# Altium schematic symbol library Schlib.SchLib: 7 symbols
Pins are listed as number, name and electrical type; pins without a type are passive.

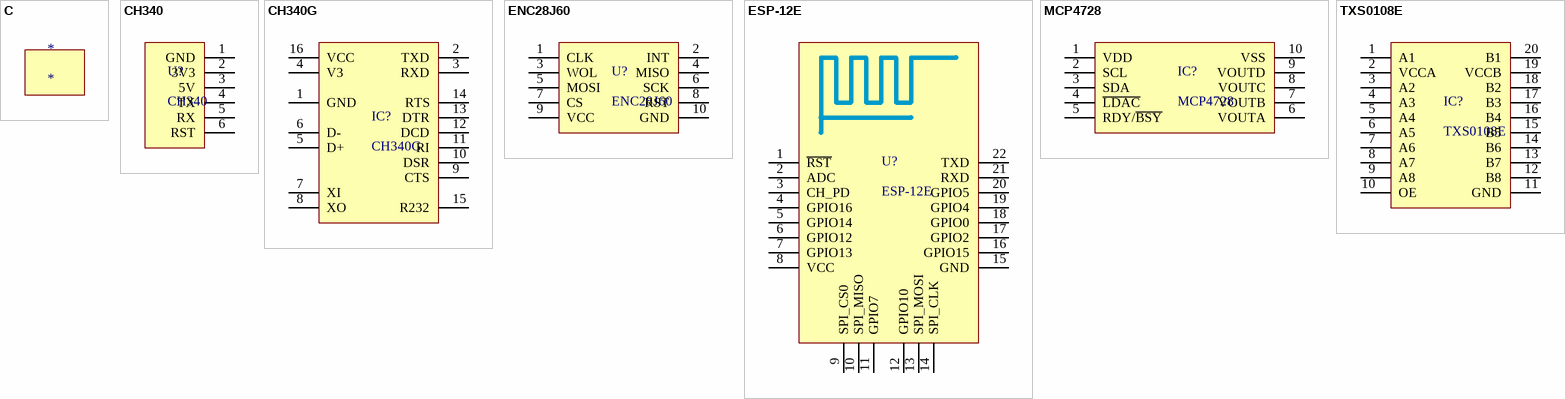
[diagram p0: symbols C to TXS0108E]

## C
designator *
footprint R79

## CH340
designator U?
USB to TTL UART CH340
footprint CH340
pins: 1 GND, 2 3V3, 3 5V, 4 TX, 5 RX, 6 RST

## CH340G
designator IC?
USB to UART Interface
pins: 1 GND, 2 TXD, 3 RXD, 4 V3, 5 D+, 6 D-, 7 XI, 8 XO, 9 CTS, 10 DSR, 11 RI, 12 DCD, 13 DTR, 14 RTS, 15 R232, 16 VCC

## ENC28J60
designator U?
ENC28J60 mini Ethernet module
footprint ENC28J60
pins: 1 CLK, 2 INT, 3 WOL, 4 MISO, 5 MOSI, 6 SCK, 7 CS, 8 RST, 9 VCC, 10 GND

## ESP-12E
designator U?
WiFi Module
footprint ESP-12E
pins: 1 ~{RST}, 2 ADC, 3 CH_PD, 4 GPIO16, 5 GPIO14, 6 GPIO12, 7 GPIO13, 8 VCC, 9 SPI_CS0, 10 SPI_MISO, 11 GPIO7, 12 GPIO10, 13 SPI_MOSI, 14 SPI_CLK, 15 GND, 16 GPIO15, 17 GPIO2, 18 GPIO0, 19 GPIO4, 20 GPIO5, 21 RXD, 22 TXD

## MCP4728
designator IC?
12-Bit, Quad Digital-to-Analog Converter with EEPROM Memory
footprint MSOP-10
pins: 1 VDD, 2 SCL, 3 SDA, 4 ~{LDAC}, 5 RDY/~{BSY}, 6 VOUTA, 7 VOUTB, 8 VOUTC, 9 VOUTD, 10 VSS

## TXS0108E
designator IC?
8-Bit Bi-directional, Level-Shifting, Voltage Translator  for Open-Drain and Push-Pull Applications
pins: 1 A1, 2 VCCA, 3 A2, 4 A3, 5 A4, 6 A5, 7 A6, 8 A7, 9 A8, 10 OE, 11 GND, 12 B8, 13 B7, 14 B6, 15 B5, 16 B4, 17 B3, 18 B2, 19 VCCB, 20 B1